# Altium footprint library TITAN_ADAPTER.PcbLib: 2 footprints
Each footprint in its own frame and in the unit in brackets; x right, y up, seen from the top. Pads: shape width x height; smd on the part's side, far side on the other; paste and mask are expansions set on the pad; w line width, h text height; cw(c..) or ccw(c..) is an arc to the next point about the centre after c.
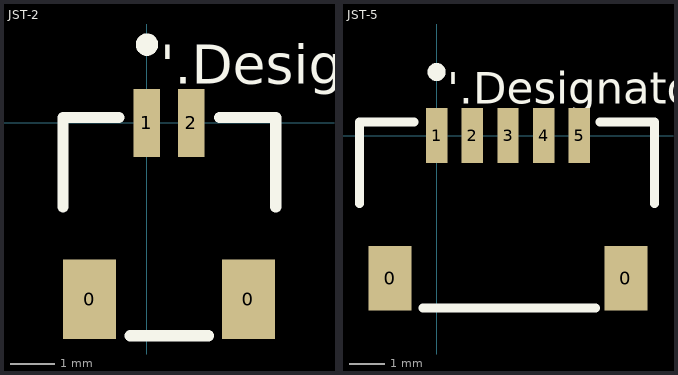
[diagram p0: the footprints below, top view; thin cyan lines are the x and y axes]

## JST-2 [mm]
pads (4):
  rect 1.2x1.8 smd: 0(-1.3,-4) 0(2.3,-4)
  rect 0.6x1.55 smd: 1(0,0) 2(1,0)
Top Overlay:
  circle w0.254: c0,1.778 r0.127
  lines w0.254: -1.905,-1.905 -1.905,0.127 -0.635,0.127 ; -0.381,-4.826 1.397,-4.826 ; 1.651,0.127 2.921,0.127 2.921,-1.905
  text "'.Designator'" at 0.298,0.889 h0.89
3D body "SM02B-SRSS-TB.STEP": height 2.97, standoff 0.01, extent -1.46,-4.634 2.54,0.316

## JST-5 [mm]
pads (7):
  rect 1.2x1.8 smd: 0(-1.3,-4) 0(5.3,-4)
  rect 0.6x1.55 smd: 1(0,0) 2(1,0) 3(2,0) 4(3,0) 5(4,0)
Top Overlay:
  circle w0.254: c0,1.778 r0.127
  lines w0.254: -2.159,-1.905 -2.159,0.381 -0.635,0.381 ; -0.381,-4.826 4.445,-4.826 ; 4.572,0.381 6.096,0.381 6.096,-1.905
  text "'.Designator'" at 0.298,0.889 h0.89
3D body "SM05B-SRSS-TB.STEP": height 2.97, standoff 0.01, extent -1.468,-4.572 5.532,0.378